# Altium integrated library Vishay Sprague Tantalum Radial-Lead Capacitor.IntLib: 103 symbols (part 2 of 2)
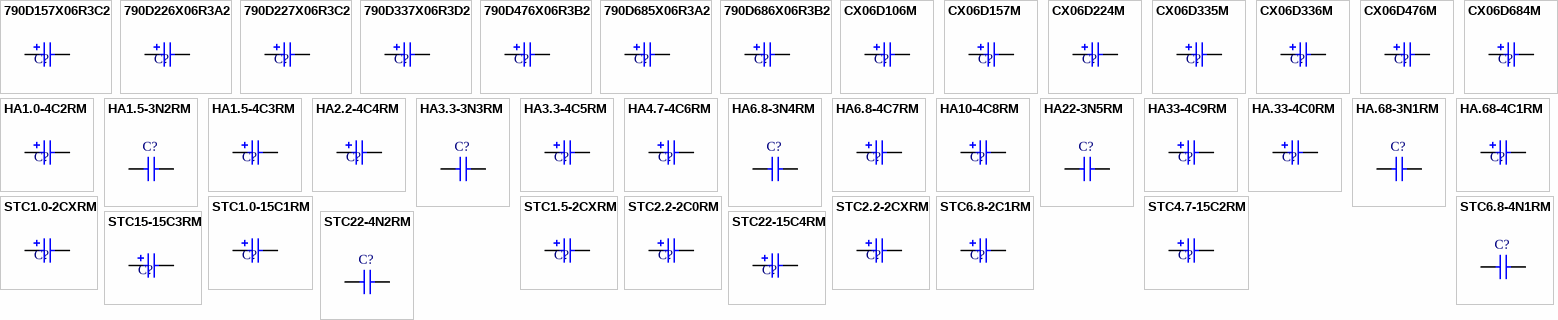
[diagram p3: symbols 790D157X06R3C2 to STC22-15C4RM]

## HA.68-4C1RM
designator C?
Subminiature, Leaded Solid Tantalum Capacitor: Radial-Lead, Polarised, 0.68uF, 20% Tolerance, 4 WVDC @ +85°C; Note: See Data Sheet for full range of components; Published: 19-Mar-2004; DatasheetDocument: 13-Jun-2002; PackageReference: HA-C1; Publisher: Altium Limited; ComponentLink1Description: Manufacturer Link; ComponentLink1URL: http://www.vishay.com/; ComponentLink2Description: Datasheet; ComponentLink2URL: http://www.vishay.com/docs/43003/ha.pdf; Value: 0.68uF
footprint HA-C1 (Capacitor, Radial, Tantalum; Body 1.7 x 2.8 mm (Dia.xH max); Pin Spacing 1.27 mm (typ))
simulation model CAP (Capacitor)
signal-integrity model HA.68-4C1AM
pins: 1, 2
1 alternate drawing of the same symbol

## STC1.0-2CXRM
designator C?
Subminiature, Leaded Solid Tantalum Capacitor: Radial-Lead, Polarised, 1.0uF, 20% Tolerance, 2 WVDC @ +85°C; Note: See Data Sheet for full range of components; Published: 19-Mar-2004; DatasheetDocument: 13-Jun-2002; PackageReference: CX; Publisher: Altium Limited; ComponentLink1Description: Manufacturer Link; ComponentLink1URL: http://www.vishay.com/; ComponentLink2Description: Datasheet; ComponentLink2URL: http://www.vishay.com/docs/43006/stc.pdf; Value: 1.0uF
footprint CX (Capacitor, Radial, Tantalum; Body 1.27 x 1.02 x 1.91 mm (WxTxH max); Pin Spacing 0.76 mm (typ))
simulation model CAP (Capacitor)
signal-integrity model STC1.0-2CXRM
pins: 1, 2
1 alternate drawing of the same symbol

## STC1.0-15C1RM
designator C?
Subminiature, Leaded Solid Tantalum Capacitor: Radial-Lead, Polarised, 1.0uF, 20% Tolerance, 15 WVDC @ +85°C; Note: See Data Sheet for full range of components; Published: 19-Mar-2004; DatasheetDocument: 13-Jun-2002; PackageReference: C1; Publisher: Altium Limited; ComponentLink1Description: Manufacturer Link; ComponentLink1URL: http://www.vishay.com/; ComponentLink2Description: Datasheet; ComponentLink2URL: http://www.vishay.com/docs/43006/stc.pdf; Value: 1.0uF
footprint C1 (Capacitor, Radial, Tantalum; Body 1.78 x 1.02 x 3.18 mm (WxTxH max); Pin Spacing 1.27 mm (typ))
simulation model CAP (Capacitor)
signal-integrity model STC1.0-15C1RM
pins: 1, 2
1 alternate drawing of the same symbol

## STC1.5-2CXRM
designator C?
Subminiature, Leaded Solid Tantalum Capacitor: Radial-Lead, Polarised, 1.5uF, 20% Tolerance, 2 WVDC @ +85°C; Note: See Data Sheet for full range of components; Published: 19-Mar-2004; DatasheetDocument: 13-Jun-2002; PackageReference: CX; Publisher: Altium Limited; ComponentLink1Description: Manufacturer Link; ComponentLink1URL: http://www.vishay.com/; ComponentLink2Description: Datasheet; ComponentLink2URL: http://www.vishay.com/docs/43006/stc.pdf; Value: 1.5uF
footprint CX (Capacitor, Radial, Tantalum; Body 1.27 x 1.02 x 1.91 mm (WxTxH max); Pin Spacing 0.76 mm (typ))
simulation model CAP (Capacitor)
signal-integrity model STC1.5-2CXRM
pins: 1, 2
1 alternate drawing of the same symbol

## STC2.2-2C0RM
designator C?
Subminiature, Leaded Solid Tantalum Capacitor: Radial-Lead, Polarised, 2.2uF, 20% Tolerance, 2 WVDC @ +85°C; Note: See Data Sheet for full range of components; Published: 19-Mar-2004; DatasheetDocument: 13-Jun-2002; PackageReference: C0; Publisher: Altium Limited; ComponentLink1Description: Manufacturer Link; ComponentLink1URL: http://www.vishay.com/; ComponentLink2Description: Datasheet; ComponentLink2URL: http://www.vishay.com/docs/43006/stc.pdf; Value: 2.2uF
footprint C0 (Capacitor, Radial, Tantalum; Body 1.27 x 1.02 x 2.54 mm (WxTxH max); Pin Spacing 0.76 mm (typ))
simulation model CAP (Capacitor)
signal-integrity model STC2.2-2C0RM
pins: 1, 2
1 alternate drawing of the same symbol

## STC2.2-2CXRM
designator C?
Subminiature, Leaded Solid Tantalum Capacitor: Radial-Lead, Polarised, 2.2uF, 20% Tolerance, 2 WVDC @ +85°C; Note: See Data Sheet for full range of components; Published: 19-Mar-2004; DatasheetDocument: 13-Jun-2002; PackageReference: CX; Publisher: Altium Limited; ComponentLink1Description: Manufacturer Link; ComponentLink1URL: http://www.vishay.com/; ComponentLink2Description: Datasheet; ComponentLink2URL: http://www.vishay.com/docs/43006/stc.pdf; Value: 2.2uF
footprint CX (Capacitor, Radial, Tantalum; Body 1.27 x 1.02 x 1.91 mm (WxTxH max); Pin Spacing 0.76 mm (typ))
simulation model CAP (Capacitor)
signal-integrity model STC2.2-2CXRM
pins: 1, 2
1 alternate drawing of the same symbol

## STC4.7-15C2RM
designator C?
Subminiature, Leaded Solid Tantalum Capacitor: Radial-Lead, Polarised, 4.7uF, 20% Tolerance, 15 WVDC @ +85°C; Note: See Data Sheet for full range of components; Published: 19-Mar-2004; DatasheetDocument: 13-Jun-2002; PackageReference: C2; Publisher: Altium Limited; ComponentLink1Description: Manufacturer Link; ComponentLink1URL: http://www.vishay.com/; ComponentLink2Description: Datasheet; ComponentLink2URL: http://www.vishay.com/docs/43006/stc.pdf; Value: 4.7uF
footprint C2 (Capacitor, Radial, Tantalum; Body 3.05 x 1.78 x 4.19 mm (WxTxH max); Pin Spacing 2.54 mm (typ))
simulation model CAP (Capacitor)
signal-integrity model STC4.7-15C2RM
pins: 1, 2
1 alternate drawing of the same symbol

## STC6.8-2C1RM
designator C?
Subminiature, Leaded Solid Tantalum Capacitor: Radial-Lead, Polarised, 6.8uF, 20% Tolerance, 2 WVDC @ +85°C; Note: See Data Sheet for full range of components; Published: 19-Mar-2004; DatasheetDocument: 13-Jun-2002; PackageReference: C1; Publisher: Altium Limited; ComponentLink1Description: Manufacturer Link; ComponentLink1URL: http://www.vishay.com/; ComponentLink2Description: Datasheet; ComponentLink2URL: http://www.vishay.com/docs/43006/stc.pdf; Value: 6.8uF
footprint C1 (Capacitor, Radial, Tantalum; Body 1.78 x 1.02 x 3.18 mm (WxTxH max); Pin Spacing 1.27 mm (typ))
simulation model CAP (Capacitor)
signal-integrity model STC6.8-2C1RM
pins: 1, 2
1 alternate drawing of the same symbol

## STC6.8-4N1RM
designator C?
Subminiature, Leaded Solid Tantalum Capacitor: Radial-Lead, Non-Polarised, 6.8uF, 20% Tolerance, 4 WVDC @ +85°C; Note: See Data Sheet for full range of components; Published: 19-Mar-2004; DatasheetDocument: 13-Jun-2002; PackageReference: N1; Publisher: Altium Limited; ComponentLink1Description: Manufacturer Link; ComponentLink1URL: http://www.vishay.com/; ComponentLink2Description: Datasheet; ComponentLink2URL: http://www.vishay.com/docs/43006/stc.pdf; Value: 6.8uF
footprint N1 (Capacitor, Radial, Tantalum, Non-Polarised; Body 4.57 x 3.18 x 5.59 mm (WxTxH max); Pin Spacing 3.18 mm (typ))
simulation model CAP (Capacitor)
signal-integrity model STC6.8-4N1RM
pins: 1, 2

## STC15-15C3RM
designator C?
Subminiature, Leaded Solid Tantalum Capacitor: Radial-Lead, Polarised, 15uF, 20% Tolerance, 15 WVDC @ +85°C; Note: See Data Sheet for full range of components; Published: 19-Mar-2004; DatasheetDocument: 13-Jun-2002; PackageReference: C3; Publisher: Altium Limited; ComponentLink1Description: Manufacturer Link; ComponentLink1URL: http://www.vishay.com/; ComponentLink2Description: Datasheet; ComponentLink2URL: http://www.vishay.com/docs/43006/stc.pdf; Value: 15uF
footprint C3 (Capacitor, Radial, Tantalum; Body 4.70 x 1.91 x 5.72 mm (WxTxH max); Pin Spacing 3.81 mm (typ))
simulation model CAP (Capacitor)
signal-integrity model STC15-15C3RM
pins: 1, 2
1 alternate drawing of the same symbol

## STC22-4N2RM
designator C?
Subminiature, Leaded Solid Tantalum Capacitor: Radial-Lead, Non-Polarised, 22uF, 20% Tolerance, 4 WVDC @ +85°C; Note: See Data Sheet for full range of components; Published: 19-Mar-2004; DatasheetDocument: 13-Jun-2002; PackageReference: N2; Publisher: Altium Limited; ComponentLink1Description: Manufacturer Link; ComponentLink1URL: http://www.vishay.com/; ComponentLink2Description: Datasheet; ComponentLink2URL: http://www.vishay.com/docs/43006/stc.pdf; Value: 22uF
footprint N2 (Capacitor, Radial, Tantalum, Non-Polarised; Body 6.10 x 3.56 x 7.11 mm (WxTxH max); Pin Spacing 4.57 mm (typ))
simulation model CAP (Capacitor)
signal-integrity model STC22-4N2RM
pins: 1, 2

## STC22-15C4RM
designator C?
Subminiature, Leaded Solid Tantalum Capacitor: Radial-Lead, Polarised, 22uF, 20% Tolerance, 15 WVDC @ +85°C; Note: See Data Sheet for full range of components; Published: 19-Mar-2004; DatasheetDocument: 13-Jun-2002; PackageReference: C4; Publisher: Altium Limited; ComponentLink1Description: Manufacturer Link; ComponentLink1URL: http://www.vishay.com/; ComponentLink2Description: Datasheet; ComponentLink2URL: http://www.vishay.com/docs/43006/stc.pdf; Value: 22uF
footprint C4 (Capacitor, Radial, Tantalum; Body 5.59 x 2.79 x 7.37 mm (WxTxH max); Pin Spacing 4.57 mm (typ))
simulation model CAP (Capacitor)
signal-integrity model STC22-15C4RM
pins: 1, 2
1 alternate drawing of the same symbol

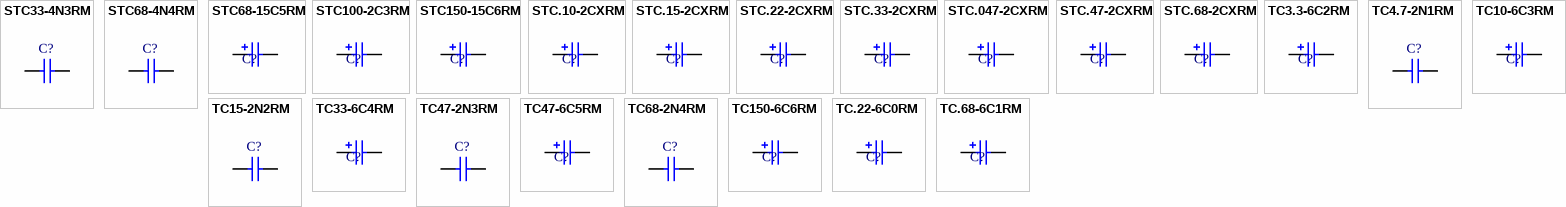
[diagram p2: symbols STC33-4N3RM to TC.68-6C1RM]

## STC33-4N3RM
designator C?
Subminiature, Leaded Solid Tantalum Capacitor: Radial-Lead, Non-Polarised, 33uF, 20% Tolerance, 4 WVDC @ +85°C; Note: See Data Sheet for full range of components; Published: 19-Mar-2004; DatasheetDocument: 13-Jun-2002; PackageReference: N3; Publisher: Altium Limited; ComponentLink1Description: Manufacturer Link; ComponentLink1URL: http://www.vishay.com/; ComponentLink2Description: Datasheet; ComponentLink2URL: http://www.vishay.com/docs/43006/stc.pdf; Value: 33uF
footprint N3 (Capacitor, Radial, Tantalum, Non-Polarised; Body 8.00 x 4.57 x 9.40 mm (WxTxH max); Pin Spacing 5.59 mm (typ))
simulation model CAP (Capacitor)
signal-integrity model STC33-4N3RM
pins: 1, 2

## STC68-4N4RM
designator C?
Subminiature, Leaded Solid Tantalum Capacitor: Radial-Lead, Non-Polarised, 68uF, 20% Tolerance, 4 WVDC @ +85°C; Note: See Data Sheet for full range of components; Published: 19-Mar-2004; DatasheetDocument: 13-Jun-2002; PackageReference: N4; Publisher: Altium Limited; ComponentLink1Description: Manufacturer Link; ComponentLink1URL: http://www.vishay.com/; ComponentLink2Description: Datasheet; ComponentLink2URL: http://www.vishay.com/docs/43006/stc.pdf; Value: 68uF
footprint N4 (Capacitor, Radial, Tantalum, Non-Polarised; Body 8.51 x 5.84 x 9.91 mm (WxTxH max); Pin Spacing 5.84 mm (typ))
simulation model CAP (Capacitor)
signal-integrity model STC68-4N4RM
pins: 1, 2

## STC68-15C5RM
designator C?
Subminiature, Leaded Solid Tantalum Capacitor: Radial-Lead, Polarised, 68uF, 20% Tolerance, 15 WVDC @ +85°C; Note: See Data Sheet for full range of components; Published: 19-Mar-2004; DatasheetDocument: 13-Jun-2002; PackageReference: C5; Publisher: Altium Limited; ComponentLink1Description: Manufacturer Link; ComponentLink1URL: http://www.vishay.com/; ComponentLink2Description: Datasheet; ComponentLink2URL: http://www.vishay.com/docs/43006/stc.pdf; Value: 68uF
footprint C5 (Capacitor, Radial, Tantalum; Body 5.84 x 3.30 x 7.87 mm (WxTxH max); Pin Spacing 5.08 mm (typ))
simulation model CAP (Capacitor)
signal-integrity model STC68-15C5RM
pins: 1, 2
1 alternate drawing of the same symbol

## STC100-2C3RM
designator C?
Subminiature, Leaded Solid Tantalum Capacitor: Radial-Lead, Polarised, 100uF, 20% Tolerance, 2 WVDC @ +85°C; Note: See Data Sheet for full range of components; Published: 19-Mar-2004; DatasheetDocument: 13-Jun-2002; PackageReference: C3; Publisher: Altium Limited; ComponentLink1Description: Manufacturer Link; ComponentLink1URL: http://www.vishay.com/; ComponentLink2Description: Datasheet; ComponentLink2URL: http://www.vishay.com/docs/43006/stc.pdf; Value: 100uF
footprint C3 (Capacitor, Radial, Tantalum; Body 4.70 x 1.91 x 5.72 mm (WxTxH max); Pin Spacing 3.81 mm (typ))
simulation model CAP (Capacitor)
signal-integrity model STC100-2C3RM
pins: 1, 2
1 alternate drawing of the same symbol

## STC150-15C6RM
designator C?
Subminiature, Leaded Solid Tantalum Capacitor: Radial-Lead, Polarised, 150uF, 20% Tolerance, 15 WVDC @ +85°C; Note: See Data Sheet for full range of components; Published: 19-Mar-2004; DatasheetDocument: 13-Jun-2002; PackageReference: C6; Publisher: Altium Limited; ComponentLink1Description: Manufacturer Link; ComponentLink1URL: http://www.vishay.com/; ComponentLink2Description: Datasheet; ComponentLink2URL: http://www.vishay.com/docs/43006/stc.pdf; Value: 150uF
footprint C6 (Capacitor, Radial, Tantalum; Body 9.53 x 3.81 x 12.07 mm (WxTxH max); Pin Spacing 7.62 mm (typ))
simulation model CAP (Capacitor)
signal-integrity model STC150-15C6RM
pins: 1, 2
1 alternate drawing of the same symbol

## STC.10-2CXRM
designator C?
Subminiature, Leaded Solid Tantalum Capacitor: Radial-Lead, Polarised, 0.10uF, 20% Tolerance, 2 WVDC @ +85°C; Note: See Data Sheet for full range of components; Published: 19-Mar-2004; DatasheetDocument: 13-Jun-2002; PackageReference: CX; Publisher: Altium Limited; ComponentLink1Description: Manufacturer Link; ComponentLink1URL: http://www.vishay.com/; ComponentLink2Description: Datasheet; ComponentLink2URL: http://www.vishay.com/docs/43006/stc.pdf; Value: 0.10uF
footprint CX (Capacitor, Radial, Tantalum; Body 1.27 x 1.02 x 1.91 mm (WxTxH max); Pin Spacing 0.76 mm (typ))
simulation model CAP (Capacitor)
signal-integrity model STC.10-2CXRM
pins: 1, 2
1 alternate drawing of the same symbol

## STC.15-2CXRM
designator C?
Subminiature, Leaded Solid Tantalum Capacitor: Radial-Lead, Polarised, 0.15uF, 20% Tolerance, 2 WVDC @ +85°C; Note: See Data Sheet for full range of components; Published: 19-Mar-2004; DatasheetDocument: 13-Jun-2002; PackageReference: CX; Publisher: Altium Limited; ComponentLink1Description: Manufacturer Link; ComponentLink1URL: http://www.vishay.com/; ComponentLink2Description: Datasheet; ComponentLink2URL: http://www.vishay.com/docs/43006/stc.pdf; Value: 0.15uF
footprint CX (Capacitor, Radial, Tantalum; Body 1.27 x 1.02 x 1.91 mm (WxTxH max); Pin Spacing 0.76 mm (typ))
simulation model CAP (Capacitor)
signal-integrity model STC.15-2CXRM
pins: 1, 2
1 alternate drawing of the same symbol

## STC.22-2CXRM
designator C?
Subminiature, Leaded Solid Tantalum Capacitor: Radial-Lead, Polarised, 0.22uF, 20% Tolerance, 2 WVDC @ +85°C; Note: See Data Sheet for full range of components; Published: 19-Mar-2004; DatasheetDocument: 13-Jun-2002; PackageReference: CX; Publisher: Altium Limited; ComponentLink1Description: Manufacturer Link; ComponentLink1URL: http://www.vishay.com/; ComponentLink2Description: Datasheet; ComponentLink2URL: http://www.vishay.com/docs/43006/stc.pdf; Value: 0.22uF
footprint CX (Capacitor, Radial, Tantalum; Body 1.27 x 1.02 x 1.91 mm (WxTxH max); Pin Spacing 0.76 mm (typ))
simulation model CAP (Capacitor)
signal-integrity model STC.22-2CXRM
pins: 1, 2
1 alternate drawing of the same symbol

## STC.33-2CXRM
designator C?
Subminiature, Leaded Solid Tantalum Capacitor: Radial-Lead, Polarised, 0.33uF, 20% Tolerance, 2 WVDC @ +85°C; Note: See Data Sheet for full range of components; Published: 19-Mar-2004; DatasheetDocument: 13-Jun-2002; PackageReference: CX; Publisher: Altium Limited; ComponentLink1Description: Manufacturer Link; ComponentLink1URL: http://www.vishay.com/; ComponentLink2Description: Datasheet; ComponentLink2URL: http://www.vishay.com/docs/43006/stc.pdf; Value: 0.33uF
footprint CX (Capacitor, Radial, Tantalum; Body 1.27 x 1.02 x 1.91 mm (WxTxH max); Pin Spacing 0.76 mm (typ))
simulation model CAP (Capacitor)
signal-integrity model STC.33-2CXRM
pins: 1, 2
1 alternate drawing of the same symbol

## STC.047-2CXRM
designator C?
Subminiature, Leaded Solid Tantalum Capacitor: Radial-Lead, Polarised, 0.047uF, 20% Tolerance, 2 WVDC @ +85°C; Note: See Data Sheet for full range of components; Published: 19-Mar-2004; DatasheetDocument: 13-Jun-2002; PackageReference: CX; Publisher: Altium Limited; ComponentLink1Description: Manufacturer Link; ComponentLink1URL: http://www.vishay.com/; ComponentLink2Description: Datasheet; ComponentLink2URL: http://www.vishay.com/docs/43006/stc.pdf; Value: 0.047uF
footprint CX (Capacitor, Radial, Tantalum; Body 1.27 x 1.02 x 1.91 mm (WxTxH max); Pin Spacing 0.76 mm (typ))
simulation model CAP (Capacitor)
signal-integrity model STC.047-2CXRM
pins: 1, 2
1 alternate drawing of the same symbol

## STC.47-2CXRM
designator C?
Subminiature, Leaded Solid Tantalum Capacitor: Radial-Lead, Polarised, 0.47uF, 20% Tolerance, 2 WVDC @ +85°C; Note: See Data Sheet for full range of components; Published: 19-Mar-2004; DatasheetDocument: 13-Jun-2002; PackageReference: CX; Publisher: Altium Limited; ComponentLink1Description: Manufacturer Link; ComponentLink1URL: http://www.vishay.com/; ComponentLink2Description: Datasheet; ComponentLink2URL: http://www.vishay.com/docs/43006/stc.pdf; Value: 0.47uF
footprint CX (Capacitor, Radial, Tantalum; Body 1.27 x 1.02 x 1.91 mm (WxTxH max); Pin Spacing 0.76 mm (typ))
simulation model CAP (Capacitor)
signal-integrity model STC.47-2CXRM
pins: 1, 2
1 alternate drawing of the same symbol

## STC.68-2CXRM
designator C?
Subminiature, Leaded Solid Tantalum Capacitor: Radial-Lead, Polarised, 0.68uF, 20% Tolerance, 2 WVDC @ +85°C; Note: See Data Sheet for full range of components; Published: 19-Mar-2004; DatasheetDocument: 13-Jun-2002; PackageReference: CX; Publisher: Altium Limited; ComponentLink1Description: Manufacturer Link; ComponentLink1URL: http://www.vishay.com/; ComponentLink2Description: Datasheet; ComponentLink2URL: http://www.vishay.com/docs/43006/stc.pdf; Value: 0.68uF
footprint CX (Capacitor, Radial, Tantalum; Body 1.27 x 1.02 x 1.91 mm (WxTxH max); Pin Spacing 0.76 mm (typ))
simulation model CAP (Capacitor)
signal-integrity model STC.68-2CXRM
pins: 1, 2
1 alternate drawing of the same symbol

## TC3.3-6C2RM
designator C?
Subminiature, Leaded Solid Tantalum Capacitor: Radial-Lead, Polarised, 3.3uF, 20% Tolerance, 6 WVDC @ +85°C; Note: See Data Sheet for full range of components; Published: 19-Mar-2004; DatasheetDocument: 13-Jun-2002; PackageReference: C2; Publisher: Altium Limited; ComponentLink1Description: Manufacturer Link; ComponentLink1URL: http://www.vishay.com/; ComponentLink2Description: Datasheet; ComponentLink2URL: http://www.vishay.com/docs/43005/tc.pdf; Value: 3.3uF
footprint C2 (Capacitor, Radial, Tantalum; Body 3.05 x 1.78 x 4.19 mm (WxTxH max); Pin Spacing 2.54 mm (typ))
simulation model CAP (Capacitor)
signal-integrity model TC3.3-6C2RM
pins: 1, 2
1 alternate drawing of the same symbol

## TC4.7-2N1RM
designator C?
Subminiature, Leaded Solid Tantalum Capacitor: Radial-Lead, Non-Polarised, 4.7uF, 20% Tolerance, 2 WVDC @ +85°C; Note: See Data Sheet for full range of components; Published: 19-Mar-2004; DatasheetDocument: 13-Jun-2002; PackageReference: N1; Publisher: Altium Limited; ComponentLink1Description: Manufacturer Link; ComponentLink1URL: http://www.vishay.com/; ComponentLink2Description: Datasheet; ComponentLink2URL: http://www.vishay.com/docs/43005/tc.pdf; Value: 4.7uF
footprint N1 (Capacitor, Radial, Tantalum, Non-Polarised; Body 4.57 x 3.18 x 5.59 mm (WxTxH max); Pin Spacing 3.18 mm (typ))
simulation model CAP (Capacitor)
signal-integrity model TC4.7-2N1RM
pins: 1, 2

## TC10-6C3RM
designator C?
Subminiature, Leaded Solid Tantalum Capacitor: Radial-Lead, Polarised, 10uF, 20% Tolerance, 6 WVDC @ +85°C; Note: See Data Sheet for full range of components; Published: 19-Mar-2004; DatasheetDocument: 13-Jun-2002; PackageReference: C3; Publisher: Altium Limited; ComponentLink1Description: Manufacturer Link; ComponentLink1URL: http://www.vishay.com/; ComponentLink2Description: Datasheet; ComponentLink2URL: http://www.vishay.com/docs/43005/tc.pdf; Value: 10uF
footprint C3 (Capacitor, Radial, Tantalum; Body 4.70 x 1.91 x 5.72 mm (WxTxH max); Pin Spacing 3.81 mm (typ))
simulation model CAP (Capacitor)
signal-integrity model TC10-6C3RM
pins: 1, 2
1 alternate drawing of the same symbol

## TC15-2N2RM
designator C?
Subminiature, Leaded Solid Tantalum Capacitor: Radial-Lead, Non-Polarised, 15uF, 20% Tolerance, 2 WVDC @ +85°C; Note: See Data Sheet for full range of components; Published: 19-Mar-2004; DatasheetDocument: 13-Jun-2002; PackageReference: N2; Publisher: Altium Limited; ComponentLink1Description: Manufacturer Link; ComponentLink1URL: http://www.vishay.com/; ComponentLink2Description: Datasheet; ComponentLink2URL: http://www.vishay.com/docs/43005/tc.pdf; Value: 15uF
footprint N2 (Capacitor, Radial, Tantalum, Non-Polarised; Body 6.10 x 3.56 x 7.11 mm (WxTxH max); Pin Spacing 4.57 mm (typ))
simulation model CAP (Capacitor)
signal-integrity model TC15-2N2RM
pins: 1, 2

## TC33-6C4RM
designator C?
Subminiature, Leaded Solid Tantalum Capacitor: Radial-Lead, Polarised, 33uF, 20% Tolerance, 6 WVDC @ +85°C; Note: See Data Sheet for full range of components; Published: 19-Mar-2004; DatasheetDocument: 13-Jun-2002; PackageReference: C4; Publisher: Altium Limited; ComponentLink1Description: Manufacturer Link; ComponentLink1URL: http://www.vishay.com/; ComponentLink2Description: Datasheet; ComponentLink2URL: http://www.vishay.com/docs/43005/tc.pdf; Value: 33uF
footprint C4 (Capacitor, Radial, Tantalum; Body 5.59 x 2.79 x 7.37 mm (WxTxH max); Pin Spacing 4.57 mm (typ))
simulation model CAP (Capacitor)
signal-integrity model TC33-6C4RM
pins: 1, 2
1 alternate drawing of the same symbol

## TC47-2N3RM
designator C?
Subminiature, Leaded Solid Tantalum Capacitor: Radial-Lead, Non-Polarised, 47uF, 20% Tolerance, 2 WVDC @ +85°C; Note: See Data Sheet for full range of components; Published: 19-Mar-2004; DatasheetDocument: 13-Jun-2002; PackageReference: N3; Publisher: Altium Limited; ComponentLink1Description: Manufacturer Link; ComponentLink1URL: http://www.vishay.com/; ComponentLink2Description: Datasheet; ComponentLink2URL: http://www.vishay.com/docs/43005/tc.pdf; Value: 47uF
footprint N3 (Capacitor, Radial, Tantalum, Non-Polarised; Body 8.00 x 4.57 x 9.40 mm (WxTxH max); Pin Spacing 5.59 mm (typ))
simulation model CAP (Capacitor)
signal-integrity model TC47-2N3RM
pins: 1, 2

## TC47-6C5RM
designator C?
Subminiature, Leaded Solid Tantalum Capacitor: Radial-Lead, Polarised, 47uF, 20% Tolerance, 6 WVDC @ +85°C; Note: See Data Sheet for full range of components; Published: 19-Mar-2004; DatasheetDocument: 13-Jun-2002; PackageReference: C5; Publisher: Altium Limited; ComponentLink1Description: Manufacturer Link; ComponentLink1URL: http://www.vishay.com/; ComponentLink2Description: Datasheet; ComponentLink2URL: http://www.vishay.com/docs/43005/tc.pdf; Value: 47uF
footprint C5 (Capacitor, Radial, Tantalum; Body 5.84 x 3.30 x 7.87 mm (WxTxH max); Pin Spacing 5.08 mm (typ))
simulation model CAP (Capacitor)
signal-integrity model TC47-6C5RM
pins: 1, 2
1 alternate drawing of the same symbol

## TC68-2N4RM
designator C?
Subminiature, Leaded Solid Tantalum Capacitor: Radial-Lead, Non-Polarised, 68uF, 20% Tolerance, 2 WVDC @ +85°C; Note: See Data Sheet for full range of components; Published: 19-Mar-2004; DatasheetDocument: 13-Jun-2002; PackageReference: N4; Publisher: Altium Limited; ComponentLink1Description: Manufacturer Link; ComponentLink1URL: http://www.vishay.com/; ComponentLink2Description: Datasheet; ComponentLink2URL: http://www.vishay.com/docs/43005/tc.pdf; Value: 68uF
footprint N4 (Capacitor, Radial, Tantalum, Non-Polarised; Body 8.51 x 5.84 x 9.91 mm (WxTxH max); Pin Spacing 5.84 mm (typ))
simulation model CAP (Capacitor)
signal-integrity model TC68-2N4RM
pins: 1, 2

## TC150-6C6RM
designator C?
Subminiature, Leaded Solid Tantalum Capacitor: Radial-Lead, Polarised, 150uF, 20% Tolerance, 6 WVDC @ +85°C; Note: See Data Sheet for full range of components; Published: 19-Mar-2004; DatasheetDocument: 13-Jun-2002; PackageReference: C6; Publisher: Altium Limited; ComponentLink1Description: Manufacturer Link; ComponentLink1URL: http://www.vishay.com/; ComponentLink2Description: Datasheet; ComponentLink2URL: http://www.vishay.com/docs/43005/tc.pdf; Value: 150uF
footprint C6 (Capacitor, Radial, Tantalum; Body 9.53 x 3.81 x 12.07 mm (WxTxH max); Pin Spacing 7.62 mm (typ))
simulation model CAP (Capacitor)
signal-integrity model TC150-6C6RM
pins: 1, 2
1 alternate drawing of the same symbol

## TC.22-6C0RM
designator C?
Subminiature, Leaded Solid Tantalum Capacitor: Radial-Lead, Polarised, 0.22uF, 20% Tolerance, 6 WVDC @ +85°C; Note: See Data Sheet for full range of components; Published: 19-Mar-2004; DatasheetDocument: 13-Jun-2002; PackageReference: C0; Publisher: Altium Limited; ComponentLink1Description: Manufacturer Link; ComponentLink1URL: http://www.vishay.com/; ComponentLink2Description: Datasheet; ComponentLink2URL: http://www.vishay.com/docs/43005/tc.pdf; Value: 0.22uF
footprint C0 (Capacitor, Radial, Tantalum; Body 1.27 x 1.02 x 2.54 mm (WxTxH max); Pin Spacing 0.76 mm (typ))
simulation model CAP (Capacitor)
signal-integrity model TC.22-6C0RM
pins: 1, 2
1 alternate drawing of the same symbol

## TC.68-6C1RM
designator C?
Subminiature, Leaded Solid Tantalum Capacitor: Radial-Lead, Polarised, 0.68uF, 20% Tolerance, 6 WVDC @ +85°C; Note: See Data Sheet for full range of components; Published: 19-Mar-2004; DatasheetDocument: 13-Jun-2002; PackageReference: C1; Publisher: Altium Limited; ComponentLink1Description: Manufacturer Link; ComponentLink1URL: http://www.vishay.com/; ComponentLink2Description: Datasheet; ComponentLink2URL: http://www.vishay.com/docs/43005/tc.pdf; Value: 0.68uF
footprint C1 (Capacitor, Radial, Tantalum; Body 1.78 x 1.02 x 3.18 mm (WxTxH max); Pin Spacing 1.27 mm (typ))
simulation model CAP (Capacitor)
signal-integrity model TC.68-6C1RM
pins: 1, 2
1 alternate drawing of the same symbol